# Altium schematic symbol library Buzzer.SchLib: 1 symbol
Pins are listed as number, name and electrical type; pins without a type are passive.

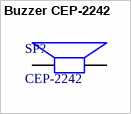
[diagram p0: symbol Buzzer CEP-2242]

## Buzzer CEP-2242
designator SP?, comment CEP-2242
Buzzer
footprint Buzzer
pins: 1, 2